# Altium footprint library SAMTEC SSW-107-03-T-S.PCBLIB: 1 footprints
Each footprint in its own frame and in the unit in brackets; x right, y up, seen from the top. Pads: shape width x height; smd on the part's side, far side on the other; paste and mask are expansions set on the pad; w line width, h text height; cw(c..) or ccw(c..) is an arc to the next point about the centre after c.
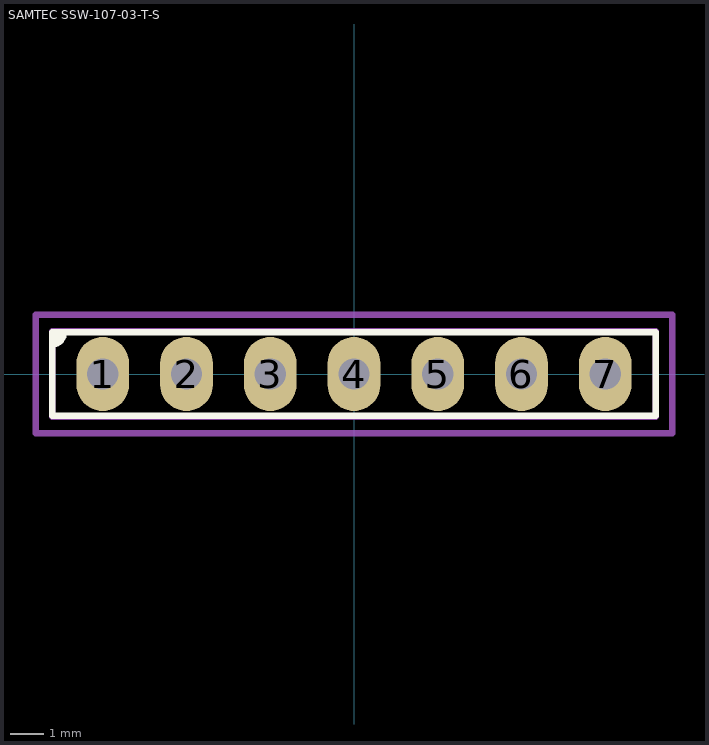
[diagram p0: the footprint, top view; thin cyan lines are the x and y axes]

## SAMTEC SSW-107-03-T-S [mm]
height 8.51
pads (7):
  oval 1.6x2.25 hole 0.95: 1(-7.62,0) 2(-5.08,0) 3(-2.54,0) 4(0,0) 5(2.54,0) 6(5.08,0) 7(7.62,0)
Top Overlay:
  region: -9.15,1.27 -8.81,1.27 -8.81,1.1 -9.01,0.9 -9.15,0.9
  lines w0.2: -9.15,0.9 ccw(c-9.15,1.24) -8.81,1.24 -8.81,1.27 ; -9.15,-1.27 -9.15,1.27 9.15,1.27 9.15,-1.27 -9.15,-1.27
Mechanical 13:
  lines w0.2: -9.15,-1.3 9.15,-1.3 9.15,1.3 -9.15,1.3 -9.15,-1.3
Mechanical 15:
  lines w0.2: -0.5,0 0.5,0 ; 0,-0.5 0,0.5 ; -9.65,-1.8 -9.65,1.8 9.65,1.8 9.65,-1.8 -9.65,-1.8
3D body "Samtec-SSW-107-03-T-S.STEP": height 8.51, standoff -10.01, extent -9.144,-1.206 9.144,1.207